# Altium footprint library HSEC8-150-01-XX-DV-A-BL.PcbLib: 1 footprints
Each footprint in its own frame and in the unit in brackets; x right, y up, seen from the top. Pads: shape width x height; smd on the part's side, far side on the other; paste and mask are expansions set on the pad; w line width, h text height; cw(c..) or ccw(c..) is an arc to the next point about the centre after c.
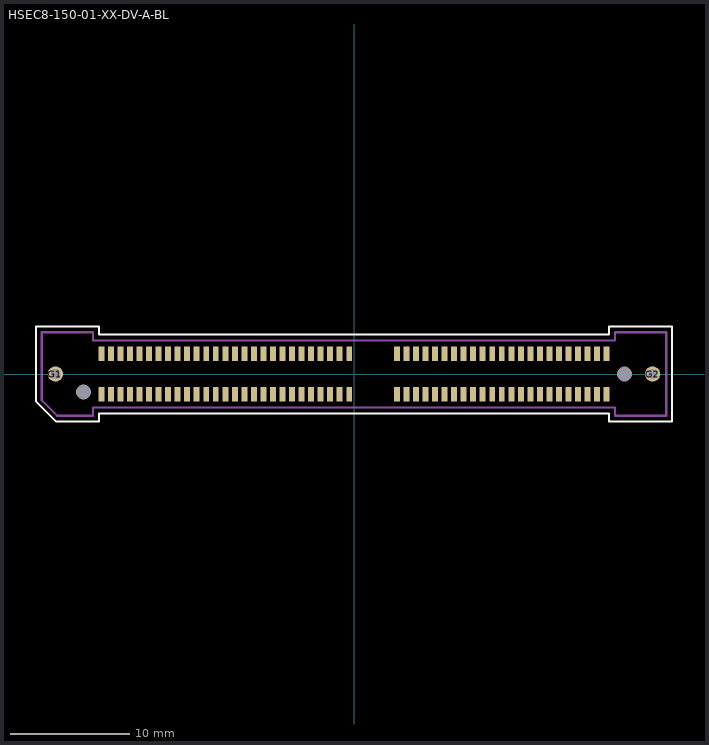
[diagram p0: the footprint, top view; thin cyan lines are the x and y axes]

## HSEC8-150-01-XX-DV-A-BL [mm]
pads (104):
  rect 0.5x1.2 smd mask+0.05: 1(-21.2,-1.7) 2(-21.2,1.7) 3(-20.4,-1.7) 4(-20.4,1.7) 5(-19.6,-1.7) 6(-19.6,1.7) 7(-18.8,-1.7) 8(-18.8,1.7) 9(-18,-1.7) 10(-18,1.7) 11(-17.2,-1.7) 12(-17.2,1.7) 13(-16.4,-1.7) 14(-16.4,1.7) 15(-15.6,-1.7) 16(-15.6,1.7) 17(-14.8,-1.7) 18(-14.8,1.7) 19(-14,-1.7) 20(-14,1.7) 21(-13.2,-1.7) 22(-13.2,1.7) 23(-12.4,-1.7) 24(-12.4,1.7) 25(-11.6,-1.7) 26(-11.6,1.7) 27(-10.8,-1.7) 28(-10.8,1.7) 29(-10,-1.7) 30(-10,1.7) 31(-9.2,-1.7) 32(-9.2,1.7) 33(-8.4,-1.7) 34(-8.4,1.7) 35(-7.6,-1.7) 36(-7.6,1.7) 37(-6.8,-1.7) 38(-6.8,1.7) 39(-6,-1.7) 40(-6,1.7) 41(-5.2,-1.7) 42(-5.2,1.7) 43(-4.4,-1.7) 44(-4.4,1.7) 45(-3.6,-1.7) 46(-3.6,1.7) 47(-2.8,-1.7) 48(-2.8,1.7) 49(-2,-1.7) 50(-2,1.7) 51(-1.2,-1.7) 52(-1.2,1.7) 53(-0.4,-1.7) 54(-0.4,1.7) 55(3.6,-1.7) 56(3.6,1.7) 57(4.4,-1.7) 58(4.4,1.7) 59(5.2,-1.7) 60(5.2,1.7) 61(6,-1.7) 62(6,1.7) 63(6.8,-1.7) 64(6.8,1.7) 65(7.6,-1.7) 66(7.6,1.7) 67(8.4,-1.7) 68(8.4,1.7) 69(9.2,-1.7) 70(9.2,1.7) 71(10,-1.7) 72(10,1.7) 73(10.8,-1.7) 74(10.8,1.7) 75(11.6,-1.7) 76(11.6,1.7) 77(12.4,-1.7) 78(12.4,1.7) 79(13.2,-1.7) 80(13.2,1.7) 81(14,-1.7) 82(14,1.7) 83(14.8,-1.7) 84(14.8,1.7) 85(15.6,-1.7) 86(15.6,1.7) 87(16.4,-1.7) 88(16.4,1.7) 89(17.2,-1.7) 90(17.2,1.7) 91(18,-1.7) 92(18,1.7) 93(18.8,-1.7) 94(18.8,1.7) 95(19.6,-1.7) 96(19.6,1.7) 97(20.4,-1.7) 98(20.4,1.7) 99(21.2,-1.7) 100(21.2,1.7)
  round 1.3 hole 0.84 mask+0.075: G1(-25.05,0) G2(25.05,0)
  round 0 hole 1.27 unplated: MH1(-22.7,-1.5) MH2(22.7,0)
Top Overlay:
  lines w0.178: -26.7,-2.3 -26.7,4 -21.4,4 -21.4,3.3 21.4,3.3 21.4,4 26.7,4 26.7,-4 21.4,-4 21.4,-3.3 -21.4,-3.3 -21.4,-4 -25,-4 -26.7,-2.3
Mechanical 1:
  lines w0.178: -26.2,-2.2 -24.9,-3.5 -21.9,-3.5 -21.9,-2.8 21.9,-2.8 21.9,-3.5 26.2,-3.5 26.2,3.5 21.9,3.5 21.9,2.8 -21.9,2.8 -21.9,3.5 -26.2,3.5 -26.2,-2.2
  text "J1" at -0.497,-0.508 h0.76
3D body "HSEC8-150-01-L-DV-A-BL.stp": height 12.2, standoff -1.5, extent -29.525,-3.5 29.525,3.5